# Altium schematic symbol library LMZM23601V5SILR.SchLib: 1 symbol
Pins are listed as number, name and electrical type; pins without a type are passive.

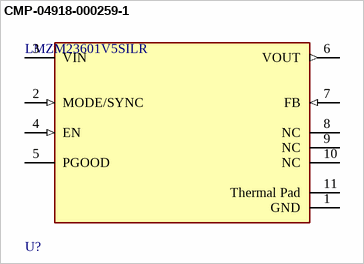
[diagram p0: symbol CMP-04918-000259-1]

## CMP-04918-000259-1
designator U?, comment LMZM23601V5SILR
DC DC CONVERTER 5V; Max Input Voltage: 36V; Efficiency: 87%; Min Input Voltage: 4V; Number of Outputs: 1; Max Output Current: 1A; Packaging: Cut Tape; Max Operating Temperature: 125°C; RoHS Compliant: Yes; Features: UVLO; Voltage - Output 1: 5V; Min Operating Temperature: -40°C; Mount: Surface Mount
footprint FP-SIL0010A-MFG
pins: 1 GND (power), 2 MODE/SYNC (in), 3 VIN (power), 4 EN (in), 5 PGOOD (oc), 6 VOUT (out), 7 FB (in), 8 NC, 9 NC, 10 NC, 11 Thermal Pad